# Altium schematic symbol library Micron Memory DDR2 SDRAM.SchLib: 62 symbols (part 16 of 16)
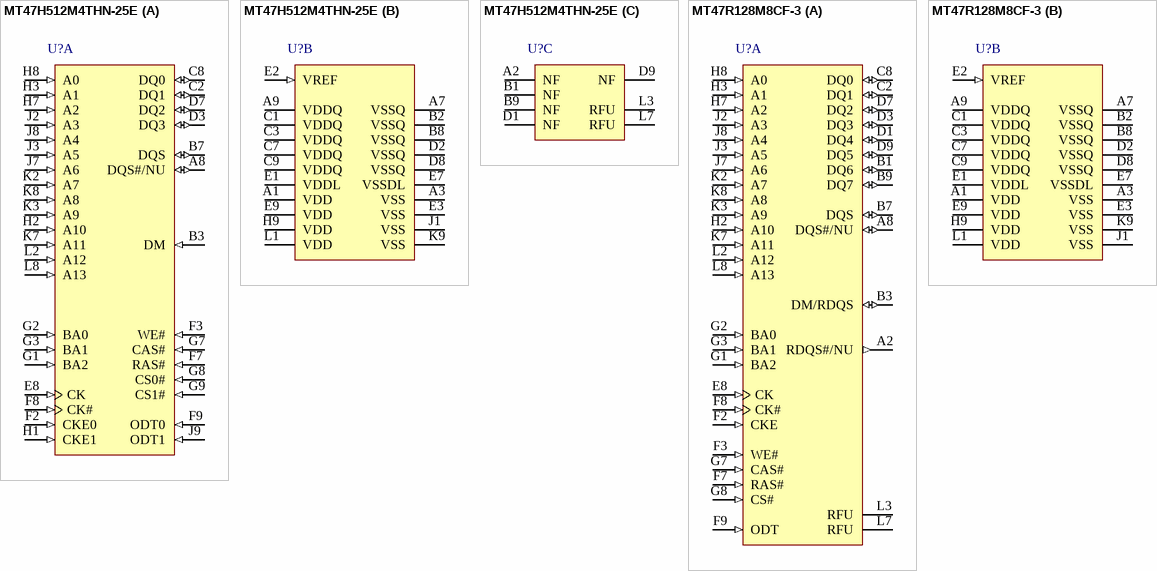
[diagram p22: symbols MT47H512M4THN-25E to MT47R128M8CF-3]

## MT47H512M4THN-25E
designator U?
2Gb DDR2-800 SDRAM, 512Mb x 4, 2.5ns, 1.8V, 0 to 85 degC, 63-Ball FBGA, Pb-Free; Manufacturer: Micron; PartNumber: MT47H512M4THN-25E; CL: CL = 5; Clock Rate: 400 MHz; Op. Temp.: 0C to +85C; DatasheetVersion: Rev.X; PackageVersion: Rev.D; PackageReference: MICT-THN-63; PackageDescription: 63-Ball Fine-Pitch Ball Grid Array, 11.5 x 9 mm, Pitch 0.8 mm; Cycle Time: 2.5ns; Data Rate: DDR2-800; Density: 2Gb; Depth: 512Mb; Package: FBGA; Pin Count: 63-ball; RoHS: Yes; Voltage: 1.8V; Width: x4; Mounting Technology: Surface Mount; ComponentLink1Description: Manufacturer URL; ComponentLink1URL: http://www.micron.com/; ComponentLink2Description: Datasheet; ComponentLink2URL: http://www.micron.com/~/media/Documents/Products/Data%20Sheet/DRAM/1Gb_DDR2.pdf; ComponentLink3Description: Package Specification; ComponentLink3URL: http://www.micron.com/~/media/Documents/Products/Data%20Sheet/DRAM/458MT47H512M4_32M_16M_twindie.pdf
footprint MICT-THN-63 (BGA, 63-Balls, Body 11.5x9mm, Pitch 0.8mm)
part A pins: A8 DQS#/NU (io) "Data strobe: Output with read data. Edge-aligned with read data. Input with write data. Center-aligned with write data. DQS# is used only when differential data strobe mode is enabled via the LOAD MODE command.", B3 DM (in) "Input data mask: DM is an input mask signal for write data. Input data is masked when DM is sampled HIGH, along with the input data, during a write access. DM is sampled on both edges of DQS. Although the DM balls are (See Datasheet)", B7 DQS (io) "Data strobe: Output with read data. Edge-aligned with read data. Input with write data. Center-aligned with write data. DQS# is used only when differential data strobe mode is enabled via the LOAD MODE command.", C2 DQ1 (io) "Data input/output: Bidirectional data bus for the x4 configuration.", C8 DQ0 (io) "Data input/output: Bidirectional data bus for the x4 configuration.", D3 DQ3 (io) "Data input/output: Bidirectional data bus for the x4 configuration.", D7 DQ2 (io) "Data input/output: Bidirectional data bus for the x4 configuration.", E8 CK (in) "Clock: CK and CK# are differential clock inputs. All control, command, and address input signals are sampled on the crossing of the positive edge of CK and the negative edge of CK#.", F2 CKE0 (in) "Clock enable: CKE enables (registered HIGH) and disables (registered LOW) the internal circuitry and clocks on the DDR2 SDRAM.", F3 WE# (in) "Command inputs: RAS#, CAS#, and WE# (along with CS#) define the command being entered.", F7 RAS# (in) "Command inputs: RAS#, CAS#, and WE# (along with CS#) define the command being entered.", F8 CK# (in) "Clock: CK and CK# are differential clock inputs. All control, command, and address input signals are sampled on the crossing of the positive edge of CK and the negative edge of CK#.", F9 ODT0 (in) "On-die termination: ODT enables (registered HIGH) and disables (registered LOW) termination resistance internal to the DDR2 SDRAM. When enabled in normal operation, ODT is applied only to the following balls: DQ, DQS, DQS#, (See Datasheet)", G1 BA2 (in) "Bank address inputs: BA[2:0] define the bank to which an ACTIVE, READ, WRITE, or PRECHARGE command is being applied. BA[2:0] define which mode register (MR, EMR1, EMR2, and EMR3) is loaded during the LOAD MODE command.", G2 BA0 (in) "Bank address inputs: BA[2:0] define the bank to which an ACTIVE, READ, WRITE, or PRECHARGE command is being applied. BA[2:0] define which mode register (MR, EMR1, EMR2, and EMR3) is loaded during the LOAD MODE command.", G3 BA1 (in) "Bank address inputs: BA[2:0] define the bank to which an ACTIVE, READ, WRITE, or PRECHARGE command is being applied. BA[2:0] define which mode register (MR, EMR1, EMR2, and EMR3) is loaded during the LOAD MODE command.", G7 CAS# (in) "Command inputs: RAS#, CAS#, and WE# (along with CS#) define the command being entered.", G8 CS0# (in) "Chip select: CS# enables (registered LOW) and disables (registered HIGH) the command decoder.", G9 CS1# (in) "Chip select: CS# enables (registered LOW) and disables (registered HIGH) the command decoder.", H1 CKE1 (in) "Clock enable: CKE enables (registered HIGH) and disables (registered LOW) the internal circuitry and clocks on the DDR2 SDRAM.", H2 A10 (in) "Address inputs: Provide the row address for ACTIVE commands, and the column address and auto precharge bit (A10) for READ/WRITE commands, to select one location out of the memory array in the respective bank. A10 sampled (See Datasheet)", H3 A1 (in) "Address inputs: Provide the row address for ACTIVE commands, and the column address and auto precharge bit (A10) for READ/WRITE commands, to select one location out of the memory array in the respective bank. A10 sampled (See Datasheet)", H7 A2 (in) "Address inputs: Provide the row address for ACTIVE commands, and the column address and auto precharge bit (A10) for READ/WRITE commands, to select one location out of the memory array in the respective bank. A10 sampled (See Datasheet)", H8 A0 (in) "Address inputs: Provide the row address for ACTIVE commands, and the column address and auto precharge bit (A10) for READ/WRITE commands, to select one location out of the memory array in the respective bank. A10 sampled (See Datasheet)", J2 A3 (in) "Address inputs: Provide the row address for ACTIVE commands, and the column address and auto precharge bit (A10) for READ/WRITE commands, to select one location out of the memory array in the respective bank. A10 sampled (See Datasheet)", J3 A5 (in) "Address inputs: Provide the row address for ACTIVE commands, and the column address and auto precharge bit (A10) for READ/WRITE commands, to select one location out of the memory array in the respective bank. A10 sampled (See Datasheet)", J7 A6 (in) "Address inputs: Provide the row address for ACTIVE commands, and the column address and auto precharge bit (A10) for READ/WRITE commands, to select one location out of the memory array in the respective bank. A10 sampled (See Datasheet)", J8 A4 (in) "Address inputs: Provide the row address for ACTIVE commands, and the column address and auto precharge bit (A10) for READ/WRITE commands, to select one location out of the memory array in the respective bank. A10 sampled (See Datasheet)", J9 ODT1 (in) "On-die termination: ODT enables (registered HIGH) and disables (registered LOW) termination resistance internal to the DDR2 SDRAM. When enabled in normal operation, ODT is applied only to the following balls: DQ, DQS, DQS#, (See Datasheet)", K2 A7 (in) "Address inputs: Provide the row address for ACTIVE commands, and the column address and auto precharge bit (A10) for READ/WRITE commands, to select one location out of the memory array in the respective bank. A10 sampled (See Datasheet)", K3 A9 (in) "Address inputs: Provide the row address for ACTIVE commands, and the column address and auto precharge bit (A10) for READ/WRITE commands, to select one location out of the memory array in the respective bank. A10 sampled (See Datasheet)", K7 A11 (in) "Address inputs: Provide the row address for ACTIVE commands, and the column address and auto precharge bit (A10) for READ/WRITE commands, to select one location out of the memory array in the respective bank. A10 sampled (See Datasheet)", K8 A8 (in) "Address inputs: Provide the row address for ACTIVE commands, and the column address and auto precharge bit (A10) for READ/RITE commands, to select one location out of the memory array in the respective bank. A10 sampled (See Datasheet)", L2 A12 (in) "Address inputs: Provide the row address for ACTIVE commands, and the column address and auto precharge bit (A10) for READ/WRITE commands, to select one location out of the memory array in the respective bank. A10 sampled (See Datasheet)", L8 A13 (in) "Address inputs: Provide the row address for ACTIVE commands, and the column address and auto precharge bit (A10) for READ/WRITE commands, to select one location out of the memory array in the respective bank. A10 sampled (See Datasheet)"
part B pins: A1 VDD (power) "Power supply: 1.8V +/-0.1V", A3 VSS (power) "Ground.", A7 VSSQ (power) "DQ ground: Isolated on the device for improved noise immunity", A9 VDDQ (power) "DQ power supply: 1.8V +/-0.1V. Isolated on the device for improved noise immunity.", B2 VSSQ (power) "DQ ground: Isolated on the device for improved noise immunity", B8 VSSQ (power) "DQ ground: Isolated on the device for improved noise immunity", C1 VDDQ (power) "DQ power supply: 1.8V +/-0.1V. Isolated on the device for improved noise immunity", C3 VDDQ (power) "DQ power supply: 1.8V +/-0.1V. Isolated on the device for improved noise immunity", C7 VDDQ (power) "DQ power supply: 1.8V +/-0.1V. Isolated on the device for improved noise immunity", C9 VDDQ (power) "DQ power supply: 1.8V +/-0.1V. Isolated on the device for improved noise immunity", D2 VSSQ (power) "DQ ground: Isolated on the device for improved noise immunity", D8 VSSQ (power) "DQ ground: Isolated on the device for improved noise immunity", E1 VDDL (power) "DLL power supply: 1.8V +/-0.1V.", E2 VREF (in) "Reference voltage: VDD/2.", E3 VSS (power) "Ground.", E7 VSSDL (power) "DLL ground: Isolated on the device from Vss and Vssq.", E9 VDD (power) "Power supply: 1.8V +/-0.1V", H9 VDD (power) "Power supply: 1.8V +/-0.1V", J1 VSS (power) "Ground.", K9 VSS (power) "Ground.", L1 VDD (power) "Power supply: 1.8V +/-0.1V"
part C pins: A2 NF "No function: These balls provide no functionality on the x4 configuration only.", B1 NF "No function: These balls provide no functionality on the x4 configuration only.", B9 NF "No function: These balls provide no functionality on the x4 configuration only.", D1 NF "No function: These balls provide no functionality on the x4 configuration only.", D9 NF "No function: These balls provide no functionality on the x4 configuration only.", L3 RFU "Reserved for future use: Row address bits A14 and A15.", L7 RFU "Reserved for future use: Row address bits A14 and A15."

## MT47R128M8CF-3
designator U?
1Gb DDR2-667 SDRAM, 128Mb x 8, 3ns, 1.55V, 0 to 85 degC, 60-Ball FBGA, Pb-Free; Manufacturer: Micron; PartNumber: MT47R128M8CF-3; CL: CL = 5; Clock Rate: 333 MHz; Op. Temp.: 0C to +85C; DatasheetVersion: Rev.D; PackageVersion: Rev.D; PackageReference: MICT-CF-60; PackageDescription: 60-Ball Fine-Pitch Ball Grid Array, 10 x 8 mm, Pitch 0.8 mm; Cycle Time: 3ns; Data Rate: DDR2-667; Density: 1Gb; Depth: 128Mb; Package: FBGA; Pin Count: 60-ball; RoHS: Yes; Voltage: 1.55V; Width: x8; Mounting Technology: Surface Mount; ComponentLink1Description: Manufacturer URL; ComponentLink1URL: http://www.micron.com/; ComponentLink2Description: Datasheet; ComponentLink2URL: http://www.micron.com/~/media/Documents/Products/Data%20Sheet/DRAM/1Gb_1_55V_DDR2.pdf; ComponentLink3Description: Package Specification; ComponentLink3URL: http://www.micron.com/~/media/Documents/Products/Data%20Sheet/DRAM/1Gb_1_55V_DDR2.pdf
footprint MICT-CF-60 (BGA, 60-Balls, Body 10x8mm, Pitch 0.8mm)
part A pins: A2 RDQS#/NU (out) "Redundant data strobe: For x8 only. RDQS is enabled/disabled via the LOAD MODE command to the extended mode register (EMR). When RDQS is enabled, RDQS is output with read data only and is ignored during write data. When RDQS (See Datasheet)", A8 DQS#/NU (io) "Data strobe: Output with read data, input with write data for source synchronous operation. Edge-aligned with read data, center-aligned with write data. DQS# is only used when differential data strobe mode is enabled via the (See Datasheet)", B1 DQ6 (io) "Bidirectional data bus for 128 Meg x 8.", B3 DM/RDQS (io) "Input data mask: DM is an input mask signal for write data. Input data is masked when DM is sampled HIGH along with that input data during a WRITE access. DM is sampled on both edges of DQS. Although DM balls are input-only, (See Datasheet)", B7 DQS (io) "Data strobe: Output with read data, input with write data for source synchronous operation. Edge-aligned with read data, center-aligned with write data. DQS# is only used when differential data strobe mode is enabled via the (See Datasheet)", B9 DQ7 (io) "Bidirectional data bus for 128 Meg x 8.", C2 DQ1 (io) "Bidirectional data bus for 128 Meg x 8.", C8 DQ0 (io) "Bidirectional data bus for 128 Meg x 8.", D1 DQ4 (io) "Bidirectional data bus for 128 Meg x 8.", D3 DQ3 (io) "Bidirectional data bus for 128 Meg x 8.", D7 DQ2 (io) "Bidirectional data bus for 128 Meg x 8.", D9 DQ5 (io) "Bidirectional data bus for 128 Meg x 8.", E8 CK (in) "CK and CK# are differential clock inputs. All address and control input signals are sampled on the crossing of the positive edge of CK and negative edge of CK#. Output data (DQ and DQS/DQS#) is referenced to the crossings of (See Datasheet)", F2 CKE (in) "CKE (registered HIGH) activates and CKE (registered LOW) deactivates clocking circuitry on the DDR2 SDRAM. The specific circuitry that is enabled/disabled is dependent on the DDR2 SDRAM configuration and operating mode. CKE (See Datasheet)", F3 WE# (in) "Command inputs: RAS#, CAS#, and WE# (along with CS#) define the command being entered.", F7 RAS# (in) "Command inputs: RAS#, CAS#, and WE# (along with CS#) define the command being entered.", F8 CK# (in) "CK and CK# are differential clock inputs. All address and control input signals are sampled on the crossing of the positive edge of CK and negative edge of CK#. Output data (DQ and DQS/DQS#) is referenced to the crossings of (See Datasheet)", F9 ODT (in) "On-die termination: ODT (registered HIGH) enables termination resistance internal to the DDR2 SDRAM. When enabled, ODT is only applied to each of the following balls:DQ[15:0], LDM, UDM, LDQS, LDQS#, UDQS, and UDQS# for the (See Datasheet)", G1 BA2 (in) "BA[2:0] define to which bank an ACTIVATE, READ, WRITE, or PRECHARGE command is being applied. BA[2:0] define which mode register, including MR,EMR, EMR(2), and EMR(3), is loaded during the LOAD MODE command.", G2 BA0 (in) "BA[2:0] define to which bank an ACTIVATE, READ, WRITE, or PRECHARGE command is being applied. BA[2:0] define which mode register, including MR,EMR, EMR(2), and EMR(3), is loaded during the LOAD MODE command.", G3 BA1 (in) "BA[2:0] define to which bank an ACTIVATE, READ, WRITE, or PRECHARGE command is being applied. BA[2:0] define which mode register, including MR,EMR, EMR(2), and EMR(3), is loaded during the LOAD MODE command.", G7 CAS# (in) "Command inputs: RAS#, CAS#, and WE# (along with CS#) define the command being entered.", G8 CS# (in) "Chip select: CS# enables (registered LOW) and disables (registered HIGH) the command decoder. All commands are masked when CS# is registered high. CS# provides for external bank selection on systems with multiple ranks. CS# (See Datasheet)", H2 A10 (in) "Provide the row address for ACTIVATE commands, and the column address and auto precharge bit (A10) for READ/WRITE commands, to select one location out of the memory array in the respective bank. A10 sampled during a (See Datasheet)", H3 A1 (in) "Provide the row address for ACTIVATE commands, and the column address and auto precharge bit (A10) for READ/WRITE commands, to select one location out of the memory array in the respective bank. A10 sampled during a (See Datasheet)", H7 A2 (in) "Provide the row address for ACTIVATE commands, and the column address and auto precharge bit (A10) for READ/WRITE commands, to select one location out of the memory array in the respective bank. A10 sampled during a (See Datasheet)", H8 A0 (in) "Provide the row address for ACTIVATE commands, and the column address and auto precharge bit (A10) for READ/WRITE commands, to select one location out of the memory array in the respective bank. A10 sampled during a (See Datasheet)", J2 A3 (in) "Provide the row address for ACTIVATE commands, and the column address and auto precharge bit (A10) for READ/WRITE commands, to select one location out of the memory array in the respective bank. A10 sampled during a (See Datasheet)", J3 A5 (in) "Provide the row address for ACTIVATE commands, and the column address and auto precharge bit (A10) for READ/WRITE commands, to select one location out of the memory array in the respective bank. A10 sampled during a (See Datasheet)", J7 A6 (in) "Provide the row address for ACTIVATE commands, and the column address and auto precharge bit (A10) for READ/WRITE commands, to select one location out of the memory array in the respective bank. A10 sampled during a (See Datasheet)", J8 A4 (in) "Provide the row address for ACTIVATE commands, and the column address and auto precharge bit (A10) for READ/WRITE commands, to select one location out of the memory array in the respective bank. A10 sampled during a (See Datasheet)", K2 A7 (in) "Provide the row address for ACTIVATE commands, and the column address and auto precharge bit (A10) for READ/WRITE commands, to select one location out of the memory array in the respective bank. A10 sampled during a (See Datasheet)", K3 A9 (in) "Provide the row address for ACTIVATE commands, and the column address and auto precharge bit (A10) for READ/WRITE commands, to select one location out of the memory array in the respective bank. A10 sampled during a (See Datasheet)", K7 A11 (in) "Provide the row address for ACTIVATE commands, and the column address and auto precharge bit (A10) for READ/WRITE commands, to select one location out of the memory array in the respective bank. A10 sampled during a (See Datasheet)", K8 A8 (in) "Provide the row address for ACTIVATE commands, and the column address and auto precharge bit (A10) for READ/WRITE commands, to select one location out of the memory array in the respective bank. A10 sampled during a (See Datasheet)", L2 A12 (in) "Provide the row address for ACTIVATE commands, and the column address and auto precharge bit (A10) for READ/WRITE commands, to select one location out of the memory array in the respective bank. A10 sampled during a (See Datasheet)", L3 RFU "Reserved for future use: Row address bits A13 (x16 only), A14, and A15.", L7 RFU "Reserved for future use: Row address bits A13 (x16 only), A14, and A15.", L8 A13 (in) "Provide the row address for ACTIVATE commands, and the column address and auto precharge bit (A10) for READ/WRITE commands, to select one location out of the memory array in the respective bank. A10 sampled during a (See Datasheet)"
part B pins: A1 VDD (power) "Power supply: 1.55V, -0.05V, +0.35V", A3 VSS (power) "Ground", A7 VSSQ (power) "DQ ground: Isolated on the device for improved noise immunity.", A9 VDDQ (power) "DQ power supply: 1.55V, -0.05V, +0.35V. Isolated on the device for improved noise immunity.", B2 VSSQ (power) "DQ ground: Isolated on the device for improved noise immunity.", B8 VSSQ (power) "DQ ground: Isolated on the device for improved noise immunity.", C1 VDDQ (power) "DQ power supply: 1.55V, -0.05V, +0.35V. Isolated on the device for improved noise immunity.", C3 VDDQ (power) "DQ power supply: 1.55V, -0.05V, +0.35V. Isolated on the device for improved noise immunity.", C7 VDDQ (power) "DQ power supply: 1.55V, -0.05V, +0.35V. Isolated on the device for improved noise immunity.", C9 VDDQ (power) "DQ power supply: 1.55V, -0.05V, +0.35V. Isolated on the device for improved noise immunity.", D2 VSSQ (power) "DQ ground: Isolated on the device for improved noise immunity.", D8 VSSQ (power) "DQ ground: Isolated on the device for improved noise immunity.", E1 VDDL (power) "DLL power supply: 1.55V, -0.05V, +0.35V", E2 VREF (in) "SSTL_18 reference voltage (VDDQ/2).", E3 VSS (power) "Ground", E7 VSSDL (power) "DLL ground: Isolated on the device from VSS and VSSQ.", E9 VDD (power) "Power supply: 1.55V, -0.05V, +0.35V", H9 VDD (power) "Power supply: 1.55V, -0.05V, +0.35V", J1 VSS (power) "Ground", K9 VSS (power) "Ground", L1 VDD (power) "Power supply: 1.55V, -0.05V, +0.35V"